# Altium footprint library ISSI SRAM ASynchronous SRAM High Speed Low Power.PcbLib: 17 footprints (part 1 of 2)
Each footprint in its own frame and in the unit in brackets; x right, y up, seen from the top. Pads: shape width x height; smd on the part's side, far side on the other; paste and mask are expansions set on the pad; w line width, h text height; cw(c..) or ccw(c..) is an arc to the next point about the centre after c.
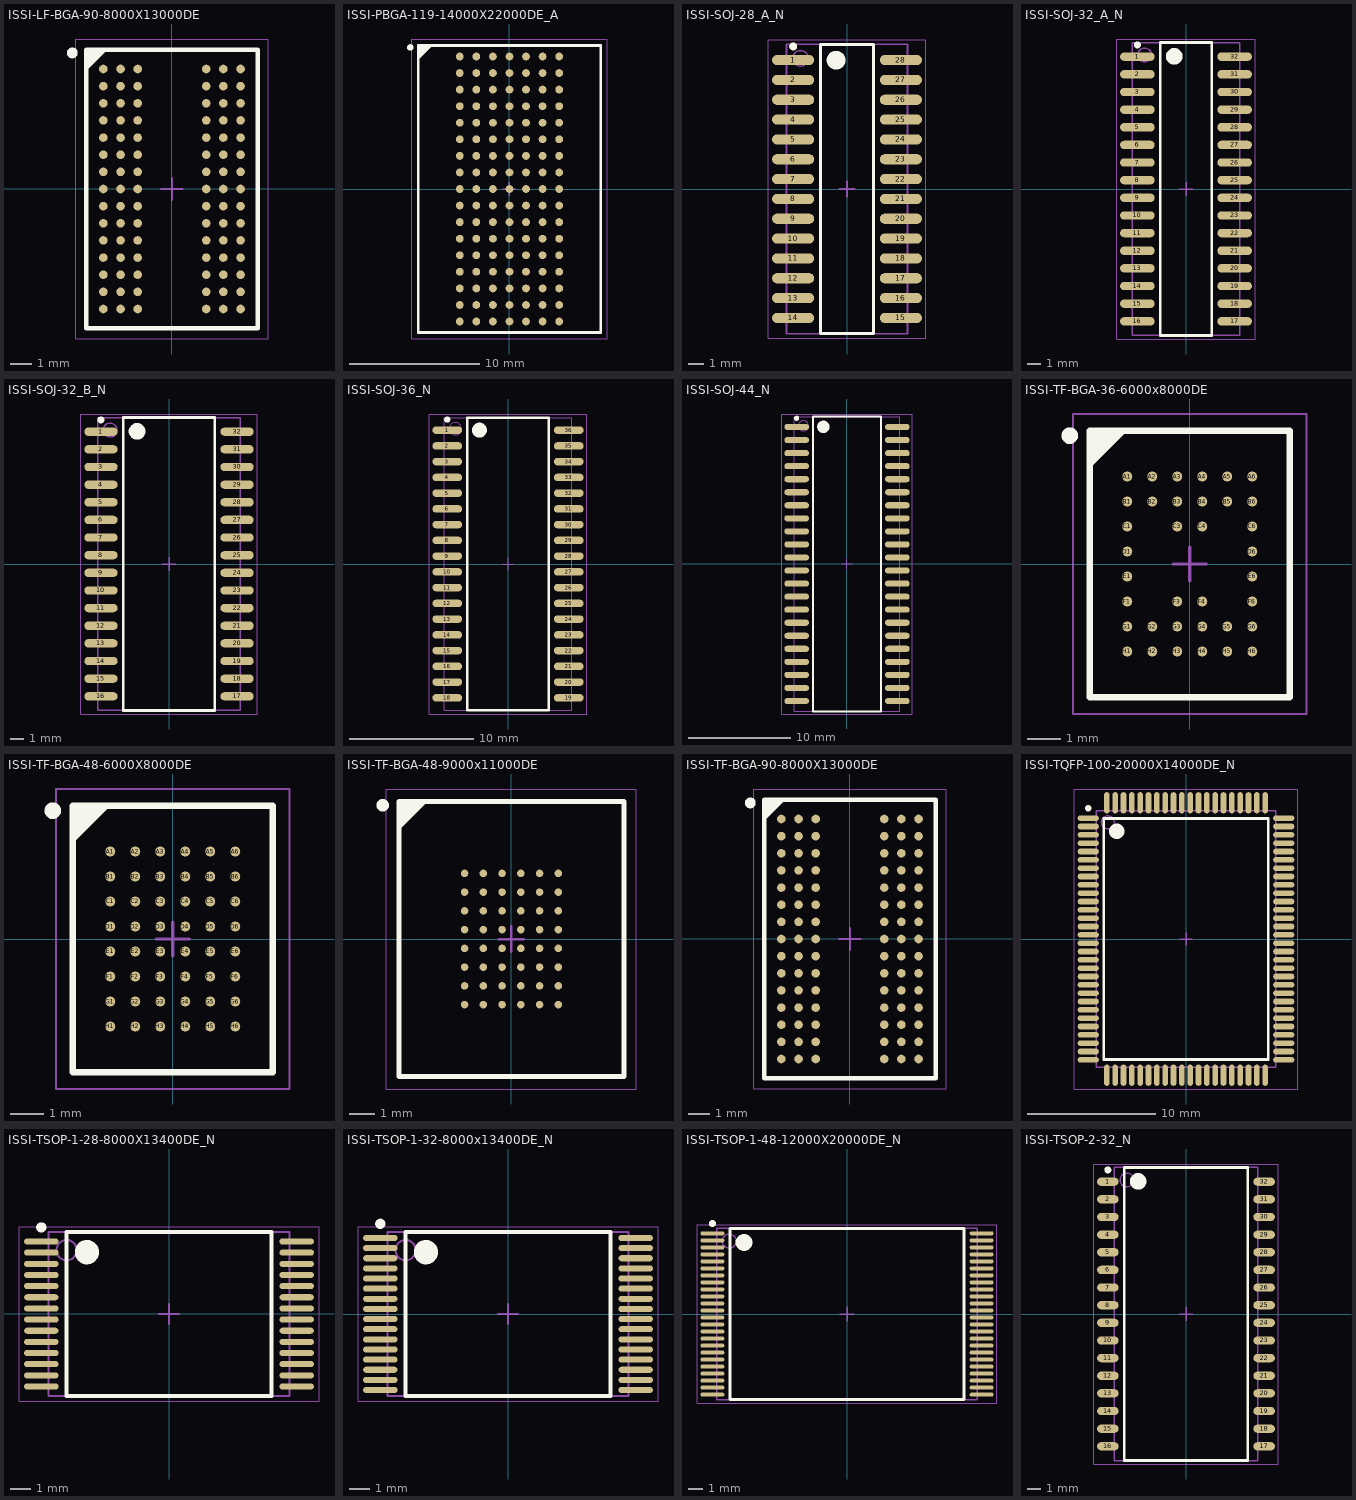
[diagram p0: the footprints below, top view; thin cyan lines are the x and y axes]

## ISSI-LF-BGA-90-8000X13000DE [mm] "BGA, 90-Balls, Body 13x8mm, Pitch 0.8mm"
height 1.2
pads (90):
  round 0.4 smd: A1(-3.2,5.6) A2(-2.4,5.6) A3(-1.6,5.6) A7(1.6,5.6) A8(2.4,5.6) A9(3.2,5.6) B1(-3.2,4.8) B2(-2.4,4.8) B3(-1.6,4.8) B7(1.6,4.8) B8(2.4,4.8) B9(3.2,4.8) C1(-3.2,4) C2(-2.4,4) C3(-1.6,4) C7(1.6,4) C8(2.4,4) C9(3.2,4) D1(-3.2,3.2) D2(-2.4,3.2) D3(-1.6,3.2) D7(1.6,3.2) D8(2.4,3.2) D9(3.2,3.2) E1(-3.2,2.4) E2(-2.4,2.4) E3(-1.6,2.4) E7(1.6,2.4) E8(2.4,2.4) E9(3.2,2.4) F1(-3.2,1.6) F2(-2.4,1.6) F3(-1.6,1.6) F7(1.6,1.6) F8(2.4,1.6) F9(3.2,1.6) G1(-3.2,0.8) G2(-2.4,0.8) G3(-1.6,0.8) G7(1.6,0.8) G8(2.4,0.8) G9(3.2,0.8) H1(-3.2,0) H2(-2.4,0) H3(-1.6,0) H7(1.6,0) H8(2.4,0) H9(3.2,0) J1(-3.2,-0.8) J2(-2.4,-0.8) J3(-1.6,-0.8) J7(1.6,-0.8) J8(2.4,-0.8) J9(3.2,-0.8) K1(-3.2,-1.6) K2(-2.4,-1.6) K3(-1.6,-1.6) K7(1.6,-1.6) K8(2.4,-1.6) K9(3.2,-1.6) L1(-3.2,-2.4) L2(-2.4,-2.4) L3(-1.6,-2.4) L7(1.6,-2.4) L8(2.4,-2.4) L9(3.2,-2.4) M1(-3.2,-3.2) M2(-2.4,-3.2) M3(-1.6,-3.2) M7(1.6,-3.2) M8(2.4,-3.2) M9(3.2,-3.2) N1(-3.2,-4) N2(-2.4,-4) N3(-1.6,-4) N7(1.6,-4) N8(2.4,-4) N9(3.2,-4) P1(-3.2,-4.8) P2(-2.4,-4.8) P3(-1.6,-4.8) P7(1.6,-4.8) P8(2.4,-4.8) P9(3.2,-4.8) R1(-3.2,-5.6) R2(-2.4,-5.6) R3(-1.6,-5.6) R7(1.6,-5.6) R8(2.4,-5.6) R9(3.2,-5.6)
Top Overlay:
  circle w0.25: c-4.65,6.35 r0.125
  region: -3.149,6.5 -4,5.649 -4,6.5
  lines w0.2: -4,5.649 -3.149,6.5 ; -4,-6.5 4,-6.5 4,6.5 -4,6.5 -4,-6.5
Mechanical 13:
  lines w0.1: -4,-6.5 4,-6.5 4,6.5 -4,6.5 -4,-6.5
Mechanical 15:
  lines w0.05: -4.5,-7 4.5,-7 4.5,7 -4.5,7 -4.5,-7
  lines w0.1: -0.5,0 0.5,0 ; 0,-0.5 0,0.5
3D body: height 1.2, standoff 0.25, extent -4,-6.5 4,6.5

## ISSI-PBGA-119-14000X22000DE_A [mm] "BGA, 119-Balls, Body 22x14mm, Pitch 1.27mm"
height 2.41
pads (119):
  round 0.6 smd: A1(-3.81,10.16) A2(-2.54,10.16) A3(-1.27,10.16) A4(0,10.16) A5(1.27,10.16) A6(2.54,10.16) A7(3.81,10.16) B1(-3.81,8.89) B2(-2.54,8.89) B3(-1.27,8.89) B4(0,8.89) B5(1.27,8.89) B6(2.54,8.89) B7(3.81,8.89) C1(-3.81,7.62) C2(-2.54,7.62) C3(-1.27,7.62) C4(0,7.62) C5(1.27,7.62) C6(2.54,7.62) C7(3.81,7.62) D1(-3.81,6.35) D2(-2.54,6.35) D3(-1.27,6.35) D4(0,6.35) D5(1.27,6.35) D6(2.54,6.35) D7(3.81,6.35) E1(-3.81,5.08) E2(-2.54,5.08) E3(-1.27,5.08) E4(0,5.08) E5(1.27,5.08) E6(2.54,5.08) E7(3.81,5.08) F1(-3.81,3.81) F2(-2.54,3.81) F3(-1.27,3.81) F4(0,3.81) F5(1.27,3.81) F6(2.54,3.81) F7(3.81,3.81) G1(-3.81,2.54) G2(-2.54,2.54) G3(-1.27,2.54) G4(0,2.54) G5(1.27,2.54) G6(2.54,2.54) G7(3.81,2.54) H1(-3.81,1.27) H2(-2.54,1.27) H3(-1.27,1.27) H4(0,1.27) H5(1.27,1.27) H6(2.54,1.27) H7(3.81,1.27) J1(-3.81,0) J2(-2.54,0) J3(-1.27,0) J4(0,0) J5(1.27,0) J6(2.54,0) J7(3.81,0) K1(-3.81,-1.27) K2(-2.54,-1.27) K3(-1.27,-1.27) K4(0,-1.27) K5(1.27,-1.27) K6(2.54,-1.27) K7(3.81,-1.27) L1(-3.81,-2.54) L2(-2.54,-2.54) L3(-1.27,-2.54) L4(0,-2.54) L5(1.27,-2.54) L6(2.54,-2.54) L7(3.81,-2.54) M1(-3.81,-3.81) M2(-2.54,-3.81) M3(-1.27,-3.81) M4(0,-3.81) M5(1.27,-3.81) M6(2.54,-3.81) M7(3.81,-3.81) N1(-3.81,-5.08) N2(-2.54,-5.08) N3(-1.27,-5.08) N4(0,-5.08) N5(1.27,-5.08) N6(2.54,-5.08) N7(3.81,-5.08) P1(-3.81,-6.35) P2(-2.54,-6.35) P3(-1.27,-6.35) P4(0,-6.35) P5(1.27,-6.35) P6(2.54,-6.35) P7(3.81,-6.35) R1(-3.81,-7.62) R2(-2.54,-7.62) R3(-1.27,-7.62) R4(0,-7.62) R5(1.27,-7.62) R6(2.54,-7.62) R7(3.81,-7.62) T1(-3.81,-8.89) T2(-2.54,-8.89) T3(-1.27,-8.89) T4(0,-8.89) T5(1.27,-8.89) T6(2.54,-8.89) T7(3.81,-8.89) U1(-3.81,-10.16) U2(-2.54,-10.16) U3(-1.27,-10.16) U4(0,-10.16) U5(1.27,-10.16) U6(2.54,-10.16) U7(3.81,-10.16)
Top Overlay:
  circle w0.25: c-7.6,10.85 r0.125
  region: -6,11 -7,10 -7,11
  lines w0.2: -7,10 -6,11 ; -7,-11 7,-11 7,11 -7,11 -7,-11
Mechanical 13:
  lines w0.1: -7,-11 7,-11 7,11 -7,11 -7,-11
Mechanical 15:
  lines w0.05: -7.5,-11.5 7.5,-11.5 7.5,11.5 -7.5,11.5 -7.5,-11.5
  lines w0.1: -0.5,0 0.5,0 ; 0,-0.5 0,0.5
3D body: height 2.41, standoff 0.5, extent -7,-11 7,11

## ISSI-SOJ-28_A_N [mm] "SOJ, 28-Leads, Body 18.54x7.75mm, Pitch 1.27mm, IPC Medium Density"
height 3.76
pads (28):
  oval 2.7x0.65 smd: 1(-3.45,8.255) 2(-3.45,6.985) 3(-3.45,5.715) 4(-3.45,4.445) 5(-3.45,3.175) 6(-3.45,1.905) 7(-3.45,0.635) 8(-3.45,-0.635) 9(-3.45,-1.905) 10(-3.45,-3.175) 11(-3.45,-4.445) 12(-3.45,-5.715) 13(-3.45,-6.985) 14(-3.45,-8.255) 15(3.45,-8.255) 16(3.45,-6.985) 17(3.45,-5.715) 18(3.45,-4.445) 19(3.45,-3.175) 20(3.45,-1.905) 21(3.45,-0.635) 22(3.45,0.635) 23(3.45,1.905) 24(3.45,3.175) 25(3.45,4.445) 26(3.45,5.715) 27(3.45,6.985) 28(3.45,8.255)
Top Overlay:
  circle w0.25: c-3.45,9.13 r0.125
  circle w0.6: c-0.7,8.25 r0.3
  lines w0.2: -1.7,-9.25 -1.7,9.25 1.7,9.25 1.7,-9.25 -1.7,-9.25
Mechanical 13:
  circle w0.1: c-2.975,8.37 r0.5
  lines w0.1: -3.875,-9.27 -3.875,9.27 3.875,9.27 3.875,-9.27 -3.875,-9.27
Mechanical 15:
  lines w0.05: -5.05,-9.55 -5.05,9.55 5.05,9.55 5.05,-9.55 -5.05,-9.55
  lines w0.1: -0.5,0 0.5,0 ; 0,-0.5 0,0.5
3D body: height 3.76, standoff 0.64, extent -3.875,-9.27 3.875,9.27

## ISSI-SOJ-32_A_N [mm] "SOJ, 32-Leads, Body 21.09x7.75mm, Pitch 1.27mm, IPC Medium Density"
height 3.76
pads (32):
  oval 2.5x0.6 smd: 1(-3.5,9.525) 2(-3.5,8.255) 3(-3.5,6.985) 4(-3.5,5.715) 5(-3.5,4.445) 6(-3.5,3.175) 7(-3.5,1.905) 8(-3.5,0.635) 9(-3.5,-0.635) 10(-3.5,-1.905) 11(-3.5,-3.175) 12(-3.5,-4.445) 13(-3.5,-5.715) 14(-3.5,-6.985) 15(-3.5,-8.255) 16(-3.5,-9.525) 17(3.5,-9.525) 18(3.5,-8.255) 19(3.5,-6.985) 20(3.5,-5.715) 21(3.5,-4.445) 22(3.5,-3.175) 23(3.5,-1.905) 24(3.5,-0.635) 25(3.5,0.635) 26(3.5,1.905) 27(3.5,3.175) 28(3.5,4.445) 29(3.5,5.715) 30(3.5,6.985) 31(3.5,8.255) 32(3.5,9.525)
Top Overlay:
  circle w0.25: c-3.5,10.375 r0.125
  circle w0.6: c-0.85,9.55 r0.3
  lines w0.2: -1.85,-10.55 -1.85,10.55 1.85,10.55 1.85,-10.55 -1.85,-10.55
Mechanical 13:
  circle w0.1: c-2.975,9.645 r0.5
  lines w0.1: -3.875,-10.545 -3.875,10.545 3.875,10.545 3.875,-10.545 -3.875,-10.545
Mechanical 15:
  lines w0.05: -5,-10.8 -5,10.8 5,10.8 5,-10.8 -5,-10.8
  lines w0.1: -0.5,0 0.5,0 ; 0,-0.5 0,0.5
3D body: height 3.76, standoff 0.64, extent -3.875,-10.545 3.875,10.545

## ISSI-SOJ-32_B_N [mm] "SOJ, 32-Leads, Body 21.08x10.29mm, Pitch 1.27mm, IPC Medium Density"
height 3.76
pads (32):
  oval 2.4x0.6 smd: 1(-4.9,9.525) 2(-4.9,8.255) 3(-4.9,6.985) 4(-4.9,5.715) 5(-4.9,4.445) 6(-4.9,3.175) 7(-4.9,1.905) 8(-4.9,0.635) 9(-4.9,-0.635) 10(-4.9,-1.905) 11(-4.9,-3.175) 12(-4.9,-4.445) 13(-4.9,-5.715) 14(-4.9,-6.985) 15(-4.9,-8.255) 16(-4.9,-9.525) 17(4.9,-9.525) 18(4.9,-8.255) 19(4.9,-6.985) 20(4.9,-5.715) 21(4.9,-4.445) 22(4.9,-3.175) 23(4.9,-1.905) 24(4.9,-0.635) 25(4.9,0.635) 26(4.9,1.905) 27(4.9,3.175) 28(4.9,4.445) 29(4.9,5.715) 30(4.9,6.985) 31(4.9,8.255) 32(4.9,9.525)
Top Overlay:
  circle w0.6: c-2.3,9.55 r0.3
  circle w0.25: c-4.9,10.375 r0.125
  lines w0.2: -3.3,-10.55 3.3,-10.55 3.3,10.55 -3.3,10.55 -3.3,-10.55
Mechanical 13:
  circle w0.1: c-4.245,9.64 r0.5
  lines w0.1: -5.145,-10.54 5.145,-10.54 5.145,10.54 -5.145,10.54 -5.145,-10.54
Mechanical 15:
  lines w0.05: -6.35,-10.8 6.35,-10.8 6.35,10.8 -6.35,10.8 -6.35,-10.8
  lines w0.1: -0.5,0 0.5,0 ; 0,-0.5 0,0.5
3D body: height 3.76, standoff 0.64, extent -5.145,-10.54 5.145,10.54

## ISSI-SOJ-36_N [mm] "SOJ, 36-Leads, Body 23.62x10.29mm, Pitch 1.27mm, IPC Medium Density"
height 3.76
pads (36):
  oval 2.4x0.6 smd: 1(-4.9,10.795) 2(-4.9,9.525) 3(-4.9,8.255) 4(-4.9,6.985) 5(-4.9,5.715) 6(-4.9,4.445) 7(-4.9,3.175) 8(-4.9,1.905) 9(-4.9,0.635) 10(-4.9,-0.635) 11(-4.9,-1.905) 12(-4.9,-3.175) 13(-4.9,-4.445) 14(-4.9,-5.715) 15(-4.9,-6.985) 16(-4.9,-8.255) 17(-4.9,-9.525) 18(-4.9,-10.795) 19(4.9,-10.795) 20(4.9,-9.525) 21(4.9,-8.255) 22(4.9,-6.985) 23(4.9,-5.715) 24(4.9,-4.445) 25(4.9,-3.175) 26(4.9,-1.905) 27(4.9,-0.635) 28(4.9,0.635) 29(4.9,1.905) 30(4.9,3.175) 31(4.9,4.445) 32(4.9,5.715) 33(4.9,6.985) 34(4.9,8.255) 35(4.9,9.525) 36(4.9,10.795)
Top Overlay:
  circle w0.6: c-2.3,10.8 r0.3
  circle w0.25: c-4.9,11.645 r0.125
  lines w0.2: -3.3,-11.8 3.3,-11.8 3.3,11.8 -3.3,11.8 -3.3,-11.8
Mechanical 13:
  circle w0.1: c-4.245,10.91 r0.5
  lines w0.1: -5.145,-11.81 5.145,-11.81 5.145,11.81 -5.145,11.81 -5.145,-11.81
Mechanical 15:
  lines w0.05: -6.35,-12.1 6.35,-12.1 6.35,12.1 -6.35,12.1 -6.35,-12.1
  lines w0.1: -0.5,0 0.5,0 ; 0,-0.5 0,0.5
3D body: height 3.76, standoff 0.64, extent -5.145,-11.81 5.145,11.81

## ISSI-SOJ-44_N [mm] "SOJ, 44-Leads, Body 28.7x10.29mm, Pitch 1.27mm, IPC Medium Density"
height 3.76
pads (44):
  oval 2.4x0.6 smd: 1(-4.9,13.335) 2(-4.9,12.065) 3(-4.9,10.795) 4(-4.9,9.525) 5(-4.9,8.255) 6(-4.9,6.985) 7(-4.9,5.715) 8(-4.9,4.445) 9(-4.9,3.175) 10(-4.9,1.905) 11(-4.9,0.635) 12(-4.9,-0.635) 13(-4.9,-1.905) 14(-4.9,-3.175) 15(-4.9,-4.445) 16(-4.9,-5.715) 17(-4.9,-6.985) 18(-4.9,-8.255) 19(-4.9,-9.525) 20(-4.9,-10.795) 21(-4.9,-12.065) 22(-4.9,-13.335) 23(4.9,-13.335) 24(4.9,-12.065) 25(4.9,-10.795) 26(4.9,-9.525) 27(4.9,-8.255) 28(4.9,-6.985) 29(4.9,-5.715) 30(4.9,-4.445) 31(4.9,-3.175) 32(4.9,-1.905) 33(4.9,-0.635) 34(4.9,0.635) 35(4.9,1.905) 36(4.9,3.175) 37(4.9,4.445) 38(4.9,5.715) 39(4.9,6.985) 40(4.9,8.255) 41(4.9,9.525) 42(4.9,10.795) 43(4.9,12.065) 44(4.9,13.335)
Top Overlay:
  circle w0.25: c-4.9,14.185 r0.125
  circle w0.6: c-2.3,13.35 r0.3
  lines w0.2: -3.3,-14.35 -3.3,14.35 3.3,14.35 3.3,-14.35 -3.3,-14.35
Mechanical 13:
  circle w0.1: c-4.245,13.45 r0.5
  lines w0.1: -5.145,-14.35 -5.145,14.35 5.145,14.35 5.145,-14.35 -5.145,-14.35
Mechanical 15:
  lines w0.05: -6.35,-14.6 -6.35,14.6 6.35,14.6 6.35,-14.6 -6.35,-14.6
  lines w0.1: -0.5,0 0.5,0 ; 0,-0.5 0,0.5
3D body: height 3.76, standoff 0.64, extent -5.145,-14.35 5.145,14.35

## ISSI-TF-BGA-36-6000x8000DE [mm] "BGA, 36-Balls, Body 8x6mm, Pitch 0.75mm"
height 1.2
pads (36):
  round 0.3 smd: A1(-1.875,2.625) A2(-1.125,2.625) A3(-0.375,2.625) A4(0.375,2.625) A5(1.125,2.625) A6(1.875,2.625) B1(-1.875,1.875) B2(-1.125,1.875) B3(-0.375,1.875) B4(0.375,1.875) B5(1.125,1.875) B6(1.875,1.875) C1(-1.875,1.125) C3(-0.375,1.125) C4(0.375,1.125) C6(1.875,1.125) D1(-1.875,0.375) D6(1.875,0.375) E1(-1.875,-0.375) E6(1.875,-0.375) F1(-1.875,-1.125) F3(-0.375,-1.125) F4(0.375,-1.125) F6(1.875,-1.125) G1(-1.875,-1.875) G2(-1.125,-1.875) G3(-0.375,-1.875) G4(0.375,-1.875) G5(1.125,-1.875) G6(1.875,-1.875) H1(-1.875,-2.625) H2(-1.125,-2.625) H3(-0.375,-2.625) H4(0.375,-2.625) H5(1.125,-2.625) H6(1.875,-2.625)
Top Overlay:
  circle w0.25: c-3.6,3.85 r0.125
  region: -2,4 -3,3 -3,4
  lines w0.2: -3,3 -2,4 ; -3,-4 3,-4 3,4 -3,4 -3,-4
Mechanical 13:
  lines w0.1: -3,-4 3,-4 3,4 -3,4 -3,-4
Mechanical 15:
  lines w0.05: -3.5,-4.5 3.5,-4.5 3.5,4.5 -3.5,4.5 -3.5,-4.5
  lines w0.1: -0.5,0 0.5,0 ; 0,-0.5 0,0.5
3D body: height 1.2, standoff 0.2, extent -3,-4 3,4

## ISSI-TF-BGA-48-6000X8000DE [mm] "BGA, 48-Balls, Body 8x6mm, Pitch 0.75mm"
height 1.2
pads (48):
  round 0.3 smd: A1(-1.875,2.625) A2(-1.125,2.625) A3(-0.375,2.625) A4(0.375,2.625) A5(1.125,2.625) A6(1.875,2.625) B1(-1.875,1.875) B2(-1.125,1.875) B3(-0.375,1.875) B4(0.375,1.875) B5(1.125,1.875) B6(1.875,1.875) C1(-1.875,1.125) C2(-1.125,1.125) C3(-0.375,1.125) C4(0.375,1.125) C5(1.125,1.125) C6(1.875,1.125) D1(-1.875,0.375) D2(-1.125,0.375) D3(-0.375,0.375) D4(0.375,0.375) D5(1.125,0.375) D6(1.875,0.375) E1(-1.875,-0.375) E2(-1.125,-0.375) E3(-0.375,-0.375) E4(0.375,-0.375) E5(1.125,-0.375) E6(1.875,-0.375) F1(-1.875,-1.125) F2(-1.125,-1.125) F3(-0.375,-1.125) F4(0.375,-1.125) F5(1.125,-1.125) F6(1.875,-1.125) G1(-1.875,-1.875) G2(-1.125,-1.875) G3(-0.375,-1.875) G4(0.375,-1.875) G5(1.125,-1.875) G6(1.875,-1.875) H1(-1.875,-2.625) H2(-1.125,-2.625) H3(-0.375,-2.625) H4(0.375,-2.625) H5(1.125,-2.625) H6(1.875,-2.625)
Top Overlay:
  circle w0.25: c-3.6,3.85 r0.125
  region: -2,4 -3,3 -3,4
  lines w0.2: -3,3 -2,4 ; -3,-4 -3,4 3,4 3,-4 -3,-4
Mechanical 13:
  lines w0.1: -3,-4 -3,4 3,4 3,-4 -3,-4
Mechanical 15:
  lines w0.05: -3.5,-4.5 -3.5,4.5 3.5,4.5 3.5,-4.5 -3.5,-4.5
  lines w0.1: -0.5,0 0.5,0 ; 0,-0.5 0,0.5
3D body: height 1.2, standoff 0.2, extent -3,-4 3,4

## ISSI-TF-BGA-48-9000x11000DE [mm] "BGA, 48-Balls, Body 11x9mm, Pitch 0.75mm"
height 1.2
pads (48):
  round 0.3 smd: A1(-1.875,2.625) A2(-1.125,2.625) A3(-0.375,2.625) A4(0.375,2.625) A5(1.125,2.625) A6(1.875,2.625) B1(-1.875,1.875) B2(-1.125,1.875) B3(-0.375,1.875) B4(0.375,1.875) B5(1.125,1.875) B6(1.875,1.875) C1(-1.875,1.125) C2(-1.125,1.125) C3(-0.375,1.125) C4(0.375,1.125) C5(1.125,1.125) C6(1.875,1.125) D1(-1.875,0.375) D2(-1.125,0.375) D3(-0.375,0.375) D4(0.375,0.375) D5(1.125,0.375) D6(1.875,0.375) E1(-1.875,-0.375) E2(-1.125,-0.375) E3(-0.375,-0.375) E4(0.375,-0.375) E5(1.125,-0.375) E6(1.875,-0.375) F1(-1.875,-1.125) F2(-1.125,-1.125) F3(-0.375,-1.125) F4(0.375,-1.125) F5(1.125,-1.125) F6(1.875,-1.125) G1(-1.875,-1.875) G2(-1.125,-1.875) G3(-0.375,-1.875) G4(0.375,-1.875) G5(1.125,-1.875) G6(1.875,-1.875) H1(-1.875,-2.625) H2(-1.125,-2.625) H3(-0.375,-2.625) H4(0.375,-2.625) H5(1.125,-2.625) H6(1.875,-2.625)
Top Overlay:
  circle w0.25: c-5.15,5.35 r0.125
  region: -3.5,5.5 -4.5,4.5 -4.5,5.5
  lines w0.2: -4.5,4.5 -3.5,5.5 ; -4.5,-5.5 4.5,-5.5 4.5,5.5 -4.5,5.5 -4.5,-5.5
Mechanical 13:
  lines w0.1: -4.5,-5.5 4.5,-5.5 4.5,5.5 -4.5,5.5 -4.5,-5.5
Mechanical 15:
  lines w0.05: -5,-6 5,-6 5,6 -5,6 -5,-6
  lines w0.1: -0.5,0 0.5,0 ; 0,-0.5 0,0.5
3D body: height 1.2, standoff 0.2, extent -4.5,-5.5 4.5,5.5

## ISSI-TF-BGA-90-8000X13000DE [mm] "BGA, 90-Balls, Body 13x8mm, Pitch 0.8mm"
height 1.2
pads (90):
  round 0.4 smd: A1(-3.2,5.6) A2(-2.4,5.6) A3(-1.6,5.6) A7(1.6,5.6) A8(2.4,5.6) A9(3.2,5.6) B1(-3.2,4.8) B2(-2.4,4.8) B3(-1.6,4.8) B7(1.6,4.8) B8(2.4,4.8) B9(3.2,4.8) C1(-3.2,4) C2(-2.4,4) C3(-1.6,4) C7(1.6,4) C8(2.4,4) C9(3.2,4) D1(-3.2,3.2) D2(-2.4,3.2) D3(-1.6,3.2) D7(1.6,3.2) D8(2.4,3.2) D9(3.2,3.2) E1(-3.2,2.4) E2(-2.4,2.4) E3(-1.6,2.4) E7(1.6,2.4) E8(2.4,2.4) E9(3.2,2.4) F1(-3.2,1.6) F2(-2.4,1.6) F3(-1.6,1.6) F7(1.6,1.6) F8(2.4,1.6) F9(3.2,1.6) G1(-3.2,0.8) G2(-2.4,0.8) G3(-1.6,0.8) G7(1.6,0.8) G8(2.4,0.8) G9(3.2,0.8) H1(-3.2,0) H2(-2.4,0) H3(-1.6,0) H7(1.6,0) H8(2.4,0) H9(3.2,0) J1(-3.2,-0.8) J2(-2.4,-0.8) J3(-1.6,-0.8) J7(1.6,-0.8) J8(2.4,-0.8) J9(3.2,-0.8) K1(-3.2,-1.6) K2(-2.4,-1.6) K3(-1.6,-1.6) K7(1.6,-1.6) K8(2.4,-1.6) K9(3.2,-1.6) L1(-3.2,-2.4) L2(-2.4,-2.4) L3(-1.6,-2.4) L7(1.6,-2.4) L8(2.4,-2.4) L9(3.2,-2.4) M1(-3.2,-3.2) M2(-2.4,-3.2) M3(-1.6,-3.2) M7(1.6,-3.2) M8(2.4,-3.2) M9(3.2,-3.2) N1(-3.2,-4) N2(-2.4,-4) N3(-1.6,-4) N7(1.6,-4) N8(2.4,-4) N9(3.2,-4) P1(-3.2,-4.8) P2(-2.4,-4.8) P3(-1.6,-4.8) P7(1.6,-4.8) P8(2.4,-4.8) P9(3.2,-4.8) R1(-3.2,-5.6) R2(-2.4,-5.6) R3(-1.6,-5.6) R7(1.6,-5.6) R8(2.4,-5.6) R9(3.2,-5.6)
Top Overlay:
  circle w0.25: c-4.65,6.35 r0.125
  region: -3.149,6.5 -4,5.649 -4,6.5
  lines w0.2: -4,5.649 -3.149,6.5 ; -4,-6.5 4,-6.5 4,6.5 -4,6.5 -4,-6.5
Mechanical 13:
  lines w0.1: -4,-6.5 4,-6.5 4,6.5 -4,6.5 -4,-6.5
Mechanical 15:
  lines w0.05: -4.5,-7 4.5,-7 4.5,7 -4.5,7 -4.5,-7
  lines w0.1: -0.5,0 0.5,0 ; 0,-0.5 0,0.5
3D body: height 1.2, standoff 0.25, extent -4,-6.5 4,6.5

## ISSI-TQFP-100-20000X14000DE_N [mm] "QFP, 100-Leads, Body 20x14mm, Pitch 0.65mm, IPC Medium Density"
height 1.45
pads (100):
  oval 1.65x0.45 smd: 1(-7.625,9.425) 2(-7.625,8.775) 3(-7.625,8.125) 4(-7.625,7.475) 5(-7.625,6.825) 6(-7.625,6.175) 7(-7.625,5.525) 8(-7.625,4.875) 9(-7.625,4.225) 10(-7.625,3.575) 11(-7.625,2.925) 12(-7.625,2.275) 13(-7.625,1.625) 14(-7.625,0.975) 15(-7.625,0.325) 16(-7.625,-0.325) 17(-7.625,-0.975) 18(-7.625,-1.625) 19(-7.625,-2.275) 20(-7.625,-2.925) 21(-7.625,-3.575) 22(-7.625,-4.225) 23(-7.625,-4.875) 24(-7.625,-5.525) 25(-7.625,-6.175) 26(-7.625,-6.825) 27(-7.625,-7.475) 28(-7.625,-8.125) 29(-7.625,-8.775) 30(-7.625,-9.425) 51(7.625,-9.425) 52(7.625,-8.775) 53(7.625,-8.125) 54(7.625,-7.475) 55(7.625,-6.825) 56(7.625,-6.175) 57(7.625,-5.525) 58(7.625,-4.875) 59(7.625,-4.225) 60(7.625,-3.575) 61(7.625,-2.925) 62(7.625,-2.275) 63(7.625,-1.625) 64(7.625,-0.975) 65(7.625,-0.325) 66(7.625,0.325) 67(7.625,0.975) 68(7.625,1.625) 69(7.625,2.275) 70(7.625,2.925) 71(7.625,3.575) 72(7.625,4.225) 73(7.625,4.875) 74(7.625,5.525) 75(7.625,6.175) 76(7.625,6.825) 77(7.625,7.475) 78(7.625,8.125) 79(7.625,8.775) 80(7.625,9.425)
  oval 0.45x1.65 smd: 31(-6.175,-10.625) 32(-5.525,-10.625) 33(-4.875,-10.625) 34(-4.225,-10.625) 35(-3.575,-10.625) 36(-2.925,-10.625) 37(-2.275,-10.625) 38(-1.625,-10.625) 39(-0.975,-10.625) 40(-0.325,-10.625) 41(0.325,-10.625) 42(0.975,-10.625) 43(1.625,-10.625) 44(2.275,-10.625) 45(2.925,-10.625) 46(3.575,-10.625) 47(4.225,-10.625) 48(4.875,-10.625) 49(5.525,-10.625) 50(6.175,-10.625) 81(6.175,10.625) 82(5.525,10.625) 83(4.875,10.625) 84(4.225,10.625) 85(3.575,10.625) 86(2.925,10.625) 87(2.275,10.625) 88(1.625,10.625) 89(0.975,10.625) 90(0.325,10.625) 91(-0.325,10.625) 92(-0.975,10.625) 93(-1.625,10.625) 94(-2.275,10.625) 95(-2.925,10.625) 96(-3.575,10.625) 97(-4.225,10.625) 98(-4.875,10.625) 99(-5.525,10.625) 100(-6.175,10.625)
Top Overlay:
  circle w0.25: c-7.625,10.2 r0.125
  circle w0.6: c-5.4,8.4 r0.3
  lines w0.2: -6.4,-9.4 -6.4,9.4 6.4,9.4 6.4,-9.4 -6.4,-9.4
Mechanical 13:
  circle w0.1: c-6.1,9.1 r0.5
  lines w0.1: -7,-10 -7,10 7,10 7,-10 -7,-10
Mechanical 15:
  lines w0.05: -8.7,-11.7 -8.7,11.7 8.7,11.7 8.7,-11.7 -8.7,-11.7
  lines w0.1: -0.5,0 0.5,0 ; 0,-0.5 0,0.5
3D body: height 1.45, standoff 0.05, extent -7,-10 7,10

## ISSI-TSOP-1-28-8000X13400DE_N [mm] "SOP, 28-Leads, Body 11.9x8.1mm, Pitch 0.55mm, IPC Medium Density"
height 1.2
pads (28):
  oval 1.7x0.3 smd: 1(-6.3,3.575) 2(-6.3,3.025) 3(-6.3,2.475) 4(-6.3,1.925) 5(-6.3,1.375) 6(-6.3,0.825) 7(-6.3,0.275) 8(-6.3,-0.275) 9(-6.3,-0.825) 10(-6.3,-1.375) 11(-6.3,-1.925) 12(-6.3,-2.475) 13(-6.3,-3.025) 14(-6.3,-3.575) 15(6.3,-3.575) 16(6.3,-3.025) 17(6.3,-2.475) 18(6.3,-1.925) 19(6.3,-1.375) 20(6.3,-0.825) 21(6.3,-0.275) 22(6.3,0.275) 23(6.3,0.825) 24(6.3,1.375) 25(6.3,1.925) 26(6.3,2.475) 27(6.3,3.025) 28(6.3,3.575)
Top Overlay:
  circle w0.25: c-6.3,4.275 r0.125
  circle w0.6: c-4.05,3.05 r0.3
  lines w0.2: -5.05,-4.05 -5.05,4.05 5.05,4.05 5.05,-4.05 -5.05,-4.05
Mechanical 13:
  circle w0.1: c-5.05,3.15 r0.5
  lines w0.1: -5.95,-4.05 -5.95,4.05 5.95,4.05 5.95,-4.05 -5.95,-4.05
Mechanical 15:
  lines w0.05: -7.4,-4.3 -7.4,4.3 7.4,4.3 7.4,-4.3 -7.4,-4.3
  lines w0.1: -0.5,0 0.5,0 ; 0,-0.5 0,0.5
3D body: height 1.2, standoff 0.05, extent -5.95,-4.05 5.95,4.05

## ISSI-TSOP-1-32-8000x13400DE_N [mm] "SOP, 32-Leads, Body 11.9x8.1mm, Pitch 0.5mm, IPC Medium Density"
height 1.25
pads (32):
  oval 1.7x0.3 smd: 1(-6.3,3.75) 2(-6.3,3.25) 3(-6.3,2.75) 4(-6.3,2.25) 5(-6.3,1.75) 6(-6.3,1.25) 7(-6.3,0.75) 8(-6.3,0.25) 9(-6.3,-0.25) 10(-6.3,-0.75) 11(-6.3,-1.25) 12(-6.3,-1.75) 13(-6.3,-2.25) 14(-6.3,-2.75) 15(-6.3,-3.25) 16(-6.3,-3.75) 17(6.3,-3.75) 18(6.3,-3.25) 19(6.3,-2.75) 20(6.3,-2.25) 21(6.3,-1.75) 22(6.3,-1.25) 23(6.3,-0.75) 24(6.3,-0.25) 25(6.3,0.25) 26(6.3,0.75) 27(6.3,1.25) 28(6.3,1.75) 29(6.3,2.25) 30(6.3,2.75) 31(6.3,3.25) 32(6.3,3.75)
Top Overlay:
  circle w0.25: c-6.3,4.45 r0.125
  circle w0.6: c-4.05,3.05 r0.3
  lines w0.2: -5.05,-4.05 -5.05,4.05 5.05,4.05 5.05,-4.05 -5.05,-4.05
Mechanical 13:
  circle w0.1: c-5.05,3.15 r0.5
  lines w0.1: -5.95,-4.05 -5.95,4.05 5.95,4.05 5.95,-4.05 -5.95,-4.05
Mechanical 15:
  lines w0.05: -7.4,-4.3 -7.4,4.3 7.4,4.3 7.4,-4.3 -7.4,-4.3
  lines w0.1: -0.5,0 0.5,0 ; 0,-0.5 0,0.5
3D body: height 1.25, standoff 0.05, extent -5.95,-4.05 5.95,4.05

## ISSI-TSOP-1-48-12000X20000DE_N [mm] "SOP, 48-Leads, Body 18.6x12.2mm, Pitch 0.5mm, IPC Medium Density"
height 1.2
pads (48):
  oval 1.7x0.3 smd: 1(-9.6,5.75) 2(-9.6,5.25) 3(-9.6,4.75) 4(-9.6,4.25) 5(-9.6,3.75) 6(-9.6,3.25) 7(-9.6,2.75) 8(-9.6,2.25) 9(-9.6,1.75) 10(-9.6,1.25) 11(-9.6,0.75) 12(-9.6,0.25) 13(-9.6,-0.25) 14(-9.6,-0.75) 15(-9.6,-1.25) 16(-9.6,-1.75) 17(-9.6,-2.25) 18(-9.6,-2.75) 19(-9.6,-3.25) 20(-9.6,-3.75) 21(-9.6,-4.25) 22(-9.6,-4.75) 23(-9.6,-5.25) 24(-9.6,-5.75) 25(9.6,-5.75) 26(9.6,-5.25) 27(9.6,-4.75) 28(9.6,-4.25) 29(9.6,-3.75) 30(9.6,-3.25) 31(9.6,-2.75) 32(9.6,-2.25) 33(9.6,-1.75) 34(9.6,-1.25) 35(9.6,-0.75) 36(9.6,-0.25) 37(9.6,0.25) 38(9.6,0.75) 39(9.6,1.25) 40(9.6,1.75) 41(9.6,2.25) 42(9.6,2.75) 43(9.6,3.25) 44(9.6,3.75) 45(9.6,4.25) 46(9.6,4.75) 47(9.6,5.25) 48(9.6,5.75)
Top Overlay:
  circle w0.25: c-9.6,6.45 r0.125
  circle w0.6: c-7.35,5.1 r0.3
  lines w0.2: -8.35,-6.1 -8.35,6.1 8.35,6.1 8.35,-6.1 -8.35,-6.1
Mechanical 13:
  circle w0.1: c-8.4,5.2 r0.5
  lines w0.1: -9.3,-6.1 -9.3,6.1 9.3,6.1 9.3,-6.1 -9.3,-6.1
Mechanical 15:
  lines w0.05: -10.7,-6.35 -10.7,6.35 10.7,6.35 10.7,-6.35 -10.7,-6.35
  lines w0.1: -0.5,0 0.5,0 ; 0,-0.5 0,0.5
3D body: height 1.2, standoff 0.05, extent -9.3,-6.1 9.3,6.1

## ISSI-TSOP-2-32_N [mm] "SOP, 32-Leads, Body 21.1x10.3mm, Pitch 1.27mm, IPC Medium Density"
height 1.2
pads (32):
  oval 1.55x0.6 smd: 1(-5.625,9.525) 2(-5.625,8.255) 3(-5.625,6.985) 4(-5.625,5.715) 5(-5.625,4.445) 6(-5.625,3.175) 7(-5.625,1.905) 8(-5.625,0.635) 9(-5.625,-0.635) 10(-5.625,-1.905) 11(-5.625,-3.175) 12(-5.625,-4.445) 13(-5.625,-5.715) 14(-5.625,-6.985) 15(-5.625,-8.255) 16(-5.625,-9.525) 17(5.625,-9.525) 18(5.625,-8.255) 19(5.625,-6.985) 20(5.625,-5.715) 21(5.625,-4.445) 22(5.625,-3.175) 23(5.625,-1.905) 24(5.625,-0.635) 25(5.625,0.635) 26(5.625,1.905) 27(5.625,3.175) 28(5.625,4.445) 29(5.625,5.715) 30(5.625,6.985) 31(5.625,8.255) 32(5.625,9.525)
Top Overlay:
  circle w0.25: c-5.625,10.375 r0.125
  circle w0.6: c-3.45,9.55 r0.3
  lines w0.2: -4.45,-10.55 -4.45,10.55 4.45,10.55 4.45,-10.55 -4.45,-10.55
Mechanical 13:
  circle w0.1: c-4.25,9.65 r0.5
  lines w0.1: -5.15,-10.55 -5.15,10.55 5.15,10.55 5.15,-10.55 -5.15,-10.55
Mechanical 15:
  lines w0.05: -6.625,-10.8 -6.625,10.8 6.625,10.8 6.625,-10.8 -6.625,-10.8
  lines w0.1: -0.5,0 0.5,0 ; 0,-0.5 0,0.5
3D body: height 1.2, standoff 0.05, extent -5.15,-10.55 5.15,10.55